# EAGLE library part LT3652 (library U-BUCK)
3652 [LINEAR,LT3652EMSE] BUCK BATT CHARGE CONTROLLER 12MSOP
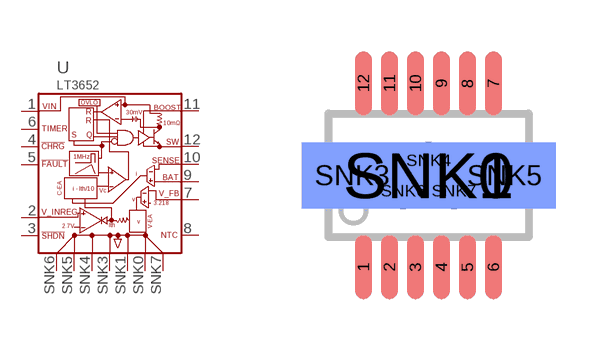
[diagram p0: symbol with the pads of 12MSOP-EDP-HAND; footprint 12MSOP-EDP-HAND]

Designator prefix U

## LT3652  [12MSOP-EDP-HAND]
1  VIN  sup
2  V_INREG  in
3  !SHDN  in
4  !CHRG  out
5  !FAULT  out
6  TIMER  pas
7  V_FB  in
8  NTC  out
9  BAT  in
10  SENSE  in
11  BOOST  in
12  SW  pwr
SNK0  0V  sup
SNK1  0V  sup
SNK3  0V  sup
SNK4  0V  sup
SNK5  0V  sup
SNK6  0V  sup
SNK7  0V  sup

## Footprint 12MSOP-EDP-HAND (pad centres in mm)
12 Micro-SMALL OUTLINE PACKAGE (MSOP) with Exposed Die Pad Warning: This Exposed Die Pad is setup for hand solder, not PnP.
smd 0.42 x 1.6: 1 -1.625,-2.3; 2 -0.975,-2.3; 3 -0.325,-2.3; 4 0.325,-2.3; 5 0.975,-2.3; 6 1.625,-2.3; 7 1.625,2.3; 8 0.975,2.3; 9 0.325,2.3; 10 -0.325,2.3; 11 -0.975,2.3; 12 -1.625,2.3
smd 6.35 x 1.651: SNK0 0,0
smd 6.35 x 1.651 bottom: SNK1 0,0
drill 1.016: SNK3 -1.905,0; SNK5 1.905,0
drill 0.406: SNK4 0,0.381; SNK6 -0.635,-0.381; SNK7 0.635,-0.381